# Altium schematic symbol library AltiumDesigner.SchLib: 2 symbols
Pins are listed as number, name and electrical type; pins without a type are passive.

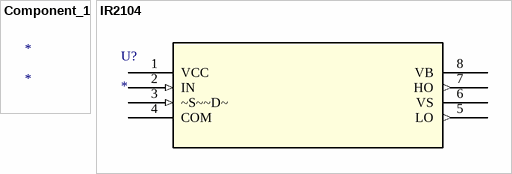
[diagram p0: symbols Component_1 to IR2104]

## Component_1
designator *

## IR2104
designator U?
Imported; Manufacturer_Part_Number: IR2104; Vendor: Vishay; Built_By: EMA_UL_Team; C: Copyright (C) 2015 Accelerated Designs. All rights reserved; RefDes: RefDes; Type: DEV; Value: Value
footprint DIP-8D11
pins: 1 VCC (power), 2 IN (in), 3 ~S~~D~ (in), 4 COM (power), 5 LO (out), 6 VS (power), 7 HO (out), 8 VB (power)